# EAGLE library part TRIODE_7BF (library wheat)
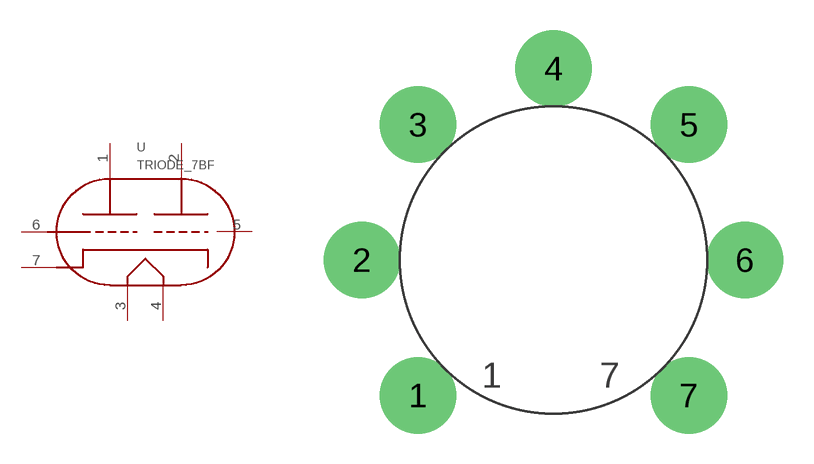
[diagram p234: symbol with the pads of MINI7_PCB_BOT; footprint MINI7_PCB_BOT]

Designator prefix -

## TRIODE_7BF  [MINI7_PCB_BOT]
1  1P  pas
2  2P  pas
3  F1  pas
4  F2  pas
5  2G  pas
6  1G  pas
7  1K  pas

## Footprint MINI7_PCB_BOT (pad centres in mm)
7-pin-mini PCB socket, mounted backside
drill 1.93 pad 3.81: 1 -6.731,-6.731; 2 -9.525,0; 3 -6.731,6.731; 4 0,9.525; 5 6.731,6.731; 6 9.525,0; 7 6.731,-6.731